# Altium footprint library motor_conn_pcb.PcbLib: 1 footprints
Each footprint in its own frame and in the unit in brackets; x right, y up, seen from the top. Pads: shape width x height; smd on the part's side, far side on the other; paste and mask are expansions set on the pad; w line width, h text height; cw(c..) or ccw(c..) is an arc to the next point about the centre after c.
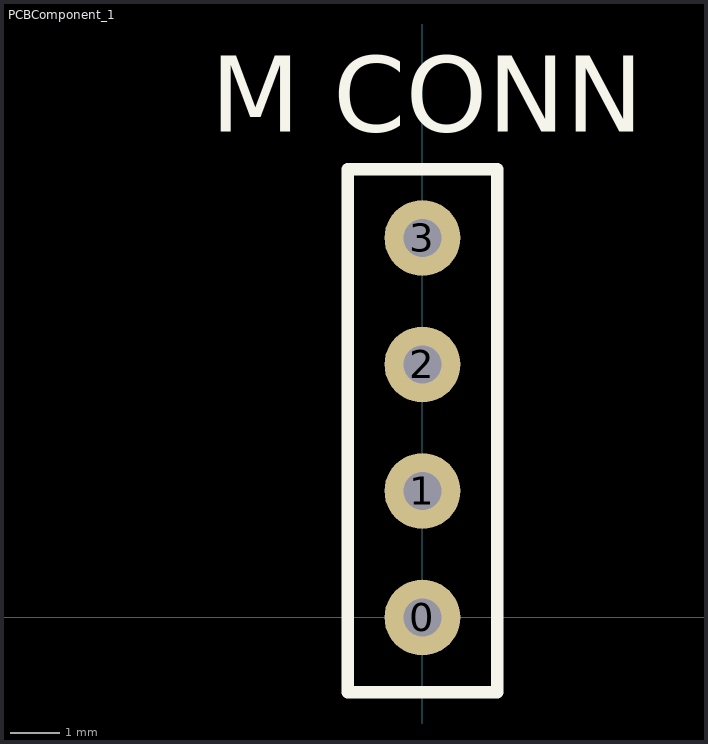
[diagram p0: the footprint, top view; thin cyan lines are the x and y axes]

## PCBComponent_1 [mil]
pads (4):
  round 60 hole 30: 0(0,0) 1(0,100) 2(0,200) 3(0,300)
Top Overlay:
  lines w10: -59.06,-59.06 59.06,-59.06 59.06,354.33 -59.06,354.33 -59.06,-59.06
  text "M CONN" at -167.17,384.02 h60